# Altium schematic symbol library TPS5430.SchLib: 2 symbols
Pins are listed as number, name and electrical type; pins without a type are passive.

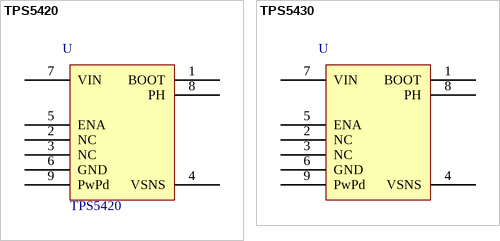
[diagram p0: symbols TPS5420 to TPS5430]

## TPS5420
designator U  value TPS5420  (hidden comment: *)
Manufacturer: Texas Instruments; Manufacturer Code: TPS5420DG4; Farnell Code: 1262365; Unit Price: 4,99 €
footprint DDA8
pins: 1 BOOT, 2 NC, 3 NC, 4 VSNS, 5 ENA, 6 GND, 7 VIN, 8 PH, 9 PwPd

## TPS5430
designator U  value TPS5430  (hidden comment: *)
footprint DDA8 (Footprint not found)
pins: 1 BOOT, 2 NC, 3 NC, 4 VSNS, 5 ENA, 6 GND, 7 VIN, 8 PH, 9 PwPd